# Altium footprint library ConnectorD.PcbLib: 2 footprints
Each footprint in its own frame and in the unit in brackets; x right, y up, seen from the top. Pads: shape width x height; smd on the part's side, far side on the other; paste and mask are expansions set on the pad; w line width, h text height; cw(c..) or ccw(c..) is an arc to the next point about the centre after c.
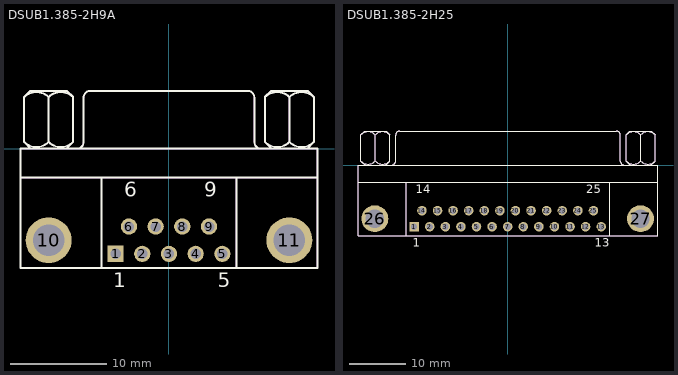
[diagram p0: the footprints below, top view; thin cyan lines are the x and y axes]

## DSUB1.385-2H9A [mm] "Connector; D Subminiature AMPLIMITE 2000; 9 Position; Right Angle"
height 12.75
pads (11):
  rect 1.69x1.69 hole 1.09: 1(-5.54,-10.92)
  round 1.69 hole 1.09: 2(-2.77,-10.92) 3(0,-10.92) 4(2.77,-10.92) 5(5.54,-10.92) 6(-4.155,-8.08) 7(-1.385,-8.08) 8(1.385,-8.08) 9(4.155,-8.08)
  round 4.76 hole 3.26: 10(-12.495,-9.5) 11(12.495,-9.5)
Top Overlay:
  lines w0.2: -15.4,-3 15.4,-3 ; -15.038,5.35 -15.038,0.699 -14.403,0.064 ; -15.038,5.365 -14.403,6 -10.593,6 -9.958,5.365 ; -12.498,0.699 -12.498,5.35 ; -10.593,0.064 -9.958,0.699 -9.958,5.35 ; -9.958,4.086 -9.958,4.298 ; -9.56,0.005 ccw(c-9.56,0.7) -8.865,0.7 -8.865,5.3 ; -8.86,5.305 cw(c-8.165,5.305) -8.165,6 8.165,6 cw(c8.165,5.305) 8.86,5.305 ; -7,-12.4 -7,-3 ; 7,-12.4 7,-3 ; 8.865,5.3 8.865,0.7 ccw(c9.56,0.7) 9.56,0.005 ; 9.962,5.35 9.962,0.699 10.597,0.064 ; 9.962,5.365 10.597,6 14.407,6 15.042,5.365 ; 12.502,0.699 12.502,5.35 ; 14.407,0.064 15.042,0.699 15.042,5.35 ; 15.042,4.086 15.042,4.298 ; -15.4,-12.4 -15.4,0 15.4,0 15.4,-12.4 -15.4,-12.4
  lines w0.203: -15.04,0.697 ccw(c-13.768,1.969) -12.496,0.697 ; -15.038,5.35 cw(c-13.766,4.078) -12.493,5.35 ; -12.502,5.35 cw(c-11.23,4.078) -9.958,5.35 ; -12.5,0.697 ccw(c-11.228,1.969) -9.956,0.697 ; 9.96,0.697 ccw(c11.232,1.969) 12.504,0.697 ; 9.962,5.35 cw(c11.234,4.078) 12.507,5.35 ; 12.498,5.35 cw(c13.77,4.078) 15.042,5.35 ; 12.5,0.697 ccw(c13.772,1.969) 15.044,0.697
  text "1" at -5.79,-14.375 h1.5
  text "5" at 5.04,-14.375 h1.5
  text "9" at 3.655,-4.975 h1.5
  text "6" at -4.655,-4.975 h1.5
Mechanical 1:
  lines w0.1: -9.56,0.005 ccw(c-9.56,0.7) -8.865,0.7 ; -8.86,5.305 cw(c-8.165,5.305) -8.165,6 ; 8.165,6 cw(c8.165,5.305) 8.86,5.305 ; 8.865,0.7 ccw(c9.56,0.7) 9.56,0.005
Mechanical 13:
  lines w0.1: -15.4,-3 15.4,-3 ; -15.04,0.697 ccw(c-13.768,1.969) -12.496,0.697 ; -15.038,5.365 -14.403,6 -10.593,6 -9.958,5.365 ; -14.403,0.064 -15.038,0.699 -15.038,5.35 cw(c-13.766,4.078) -12.493,5.35 ; -12.502,5.35 cw(c-11.23,4.078) -9.958,5.35 -9.958,0.699 -10.593,0.064 ; -12.5,0.697 ccw(c-11.228,1.969) -9.956,0.697 ; -12.498,0.699 -12.498,5.35 ; -9.958,4.086 -9.958,4.298 ; -8.865,0.7 -8.865,5.3 ; -8.165,6 8.165,6 ; -7,-12.4 -7,-3 ; 7,-12.4 7,-3 ; 8.865,0.7 8.865,5.3 ; 9.96,0.697 ccw(c11.232,1.969) 12.504,0.697 ; 9.962,5.365 10.597,6 14.407,6 15.042,5.365 ; 10.597,0.064 9.962,0.699 9.962,5.35 cw(c11.234,4.078) 12.507,5.35 ; 12.498,5.35 cw(c13.77,4.078) 15.042,5.35 15.042,0.699 14.407,0.064 ; 12.5,0.697 ccw(c13.772,1.969) 15.044,0.697 ; 12.502,0.699 12.502,5.35 ; 15.042,4.086 15.042,4.298 ; -15.4,-12.4 -15.4,0 15.4,0 15.4,-12.4 -15.4,-12.4
3D body "SW3dPS-9-PIN_DSUB-1.STEP": height 13.51, standoff -2.21, extent -15.305,-12.875 15.505,6.2
3D body: height 12.75, standoff 0, extent 7.001,-12.399 15.399,-3.001
3D body: height 12.75, standoff 0, extent -15.399,-12.399 -7.001,-3.001
3D body: height 12.75, standoff 0, extent -6.999,-12.399 6.999,-3.001
3D body: height 12.75, standoff 0, extent -15.399,-2.999 15.399,-0.001
3D body: height 8.87, standoff 3.88, extent 9.953,0.064 14.934,6.064
3D body: height 8.87, standoff 3.88, extent -15.047,0.064 -10.066,6.064
3D body: height 10.87, standoff 1.88, extent -9,0 9,6

## DSUB1.385-2H25 [mm] "Connector; D Subminiature AMPLIMITE 2000; 25 Position; Right Angle"
height 12.75
pads (27):
  rect 1.69x1.69 hole 1.09: 1(-16.566,-10.92)
  round 1.69 hole 1.09: 2(-13.805,-10.92) 3(-11.044,-10.92) 4(-8.283,-10.92) 5(-5.522,-10.92) 6(-2.761,-10.92) 7(0,-10.92) 8(2.761,-10.92) 9(5.522,-10.92) 10(8.283,-10.92) 11(11.044,-10.92) 12(13.805,-10.92) 13(16.566,-10.92) 14(-15.185,-8.08) 15(-12.424,-8.08) 16(-9.663,-8.08) 17(-6.902,-8.08) 18(-4.142,-8.08) 19(-1.381,-8.08) 20(1.381,-8.08) 21(4.142,-8.08) 22(6.903,-8.08) 23(9.664,-8.08) 24(12.425,-8.08) 25(15.186,-8.08)
  round 4.76 hole 3.26: 26(-23.526,-9.5) 27(23.526,-9.5)
Top Overlay:
  lines w0.2: -26.496,-3 26.604,-3 ; -25.984,5.35 -25.984,0.699 -25.349,0.064 ; -25.984,5.365 -25.349,6 -21.539,6 -20.904,5.365 ; -23.444,0.699 -23.444,5.35 ; -21.539,0.064 -20.904,0.699 -20.904,5.35 ; -20.904,4.086 -20.904,4.298 ; -20.541,0.005 ccw(c-20.541,0.7) -19.846,0.7 -19.846,5.3 ; -19.841,5.305 cw(c-19.146,5.305) -19.146,6 19.254,6 cw(c19.254,5.305) 19.949,5.305 ; -17.946,-12.5 -17.946,-3 ; 18.054,-12.5 18.054,-3 ; 19.954,5.3 19.954,0.7 ccw(c20.649,0.7) 20.649,0.005 ; 21.016,5.35 21.016,0.699 21.651,0.064 ; 21.016,5.365 21.651,6 25.461,6 26.096,5.365 ; 23.556,0.699 23.556,5.35 ; 25.461,0.064 26.096,0.699 26.096,5.35 ; 26.096,4.086 26.096,4.298 ; -26.496,-12.5 26.604,-12.5 26.604,0 -26.496,0 -26.496,-12.5
  lines w0.203: -25.986,0.697 ccw(c-24.714,1.969) -23.442,0.697 ; -25.984,5.35 cw(c-24.712,4.078) -23.439,5.35 ; -23.448,5.35 cw(c-22.176,4.078) -20.904,5.35 ; -23.446,0.697 ccw(c-22.174,1.969) -20.902,0.697 ; 21.014,0.697 ccw(c22.286,1.969) 23.558,0.697 ; 21.016,5.35 cw(c22.288,4.078) 23.561,5.35 ; 23.552,5.35 cw(c24.824,4.078) 26.096,5.35 ; 23.554,0.697 ccw(c24.826,1.969) 26.098,0.697
  text "1" at -16.816,-14.475 h1.5
  text "13" at 15.441,-14.475 h1.5
  text "14" at -16.31,-4.975 h1.5
  text "25" at 13.935,-4.975 h1.5
Mechanical 13:
  lines w0.1: -26.496,-3 26.604,-3 ; -25.986,0.697 ccw(c-24.714,1.969) -23.442,0.697 ; -25.984,5.365 -25.349,6 -21.539,6 -20.904,5.365 ; -25.349,0.064 -25.984,0.699 -25.984,5.35 cw(c-24.712,4.078) -23.439,5.35 ; -23.448,5.35 cw(c-22.176,4.078) -20.904,5.35 -20.904,0.699 -21.539,0.064 ; -23.446,0.697 ccw(c-22.174,1.969) -20.902,0.697 ; -23.444,0.699 -23.444,5.35 ; -20.904,4.086 -20.904,4.298 ; -20.541,0.005 ccw(c-20.541,0.7) -19.846,0.7 -19.846,5.3 ; -19.841,5.305 cw(c-19.146,5.305) -19.146,6 19.254,6 cw(c19.254,5.305) 19.949,5.305 ; -17.946,-12.5 -17.946,-3 ; 18.054,-12.5 18.054,-3 ; 19.954,5.3 19.954,0.7 ccw(c20.649,0.7) 20.649,0.005 ; 21.014,0.697 ccw(c22.286,1.969) 23.558,0.697 ; 21.016,5.365 21.651,6 25.461,6 26.096,5.365 ; 21.651,0.064 21.016,0.699 21.016,5.35 cw(c22.288,4.078) 23.561,5.35 ; 23.552,5.35 cw(c24.824,4.078) 26.096,5.35 26.096,0.699 25.461,0.064 ; 23.554,0.697 ccw(c24.826,1.969) 26.098,0.697 ; 23.556,0.699 23.556,5.35 ; 26.096,4.086 26.096,4.298 ; -26.496,-12.5 -26.496,0 26.604,0 26.604,-12.5 -26.496,-12.5
3D body "SW3dPS-2100-1107_25PINDSUB(paralela).step": height 12.54, standoff -4.25, extent -26.545,-11.412 26.545,6.635
3D body: height 8.87, standoff 3.88, extent 21.007,0.064 25.988,6.064
3D body: height 12.75, standoff 0, extent -26.496,-12.499 -17.947,-3.001
3D body: height 12.75, standoff 0, extent 18.054,-12.499 26.603,-3.001
3D body: height 12.75, standoff 0, extent -17.946,-12.499 18.053,-3.001
3D body: height 8.87, standoff 3.88, extent -25.993,0.064 -21.012,6.064
3D body: height 12.75, standoff 0, extent -26.496,-2.999 26.603,-0.001
3D body: height 10.87, standoff 1.88, extent -20,0 20,6